# Altium schematic symbol library MySchlib1.SchLib: 1 symbol
Pins are listed as number, name and electrical type; pins without a type are passive.

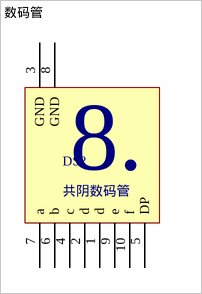
[diagram p0: symbol 数码管]

## 数码管
designator DS?, comment 共阴数码管
pins: 1 d, 2 d, 3 GND, 4 c, 5 DP, 6 b, 7 a, 8 GND, 9 e, 10 f
text: 8.